# Altium schematic symbol library CY8C4247AZI-L485.SchLib: 1 symbol
Pins are listed as number, name and electrical type; pins without a type are passive.

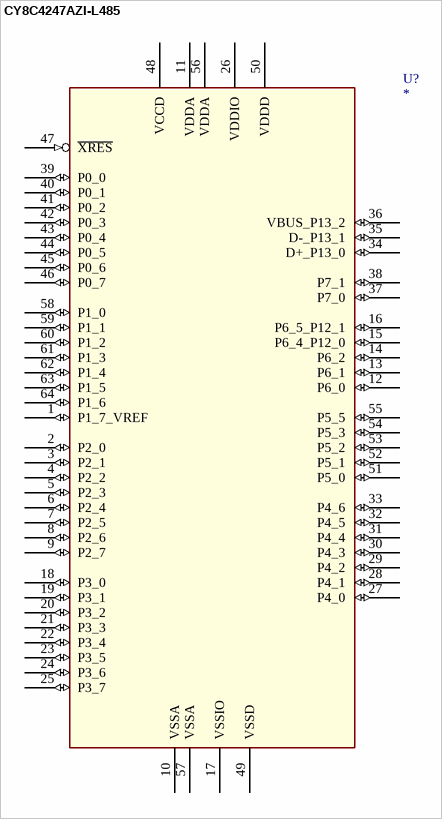
[diagram p0: symbol CY8C4247AZI-L485]

## CY8C4247AZI-L485
designator U?
Part_Number: CY8C4247AZI-L485
pins: 1 P1_7_VREF (io), 2 P2_0 (io), 3 P2_1 (io), 4 P2_2 (io), 5 P2_3 (io), 6 P2_4 (io), 7 P2_5 (io), 8 P2_6 (io), 9 P2_7 (io), 10 VSSA (power), 11 VDDA (power), 12 P6_0 (io), 13 P6_1 (io), 14 P6_2 (io), 15 P6_4_P12_0 (io), 16 P6_5_P12_1 (io), 17 VSSIO (power), 18 P3_0 (io), 19 P3_1 (io), 20 P3_2 (io), 21 P3_3 (io), 22 P3_4 (io), 23 P3_5 (io), 24 P3_6 (io), 25 P3_7 (io), 26 VDDIO (power), 27 P4_0 (io), 28 P4_1 (io), 29 P4_2 (io), 30 P4_3 (io), 31 P4_4 (io), 32 P4_5 (io), 33 P4_6 (io), 34 D+_P13_0 (io), 35 D-_P13_1 (io), 36 VBUS_P13_2 (io), 37 P7_0 (io), 38 P7_1 (io), 39 P0_0 (io), 40 P0_1 (io), 41 P0_2 (io), 42 P0_3 (io), 43 P0_4 (io), 44 P0_5 (io), 45 P0_6 (io), 46 P0_7 (io), 47 ~{XRES} (in), 48 VCCD (power), 49 VSSD (power), 50 VDDD (power), 51 P5_0 (io), 52 P5_1 (io), 53 P5_2 (io), 54 P5_3 (io), 55 P5_5 (io), 56 VDDA (power), 57 VSSA (power), 58 P1_0 (io), 59 P1_1 (io), 60 P1_2 (io), 61 P1_3 (io), 62 P1_4 (io), 63 P1_5 (io), 64 P1_6 (io)